# Altium footprint library TO227-SMPC.PcbLib: 1 footprints
Each footprint in its own frame and in the unit in brackets; x right, y up, seen from the top. Pads: shape width x height; smd on the part's side, far side on the other; paste and mask are expansions set on the pad; w line width, h text height; cw(c..) or ccw(c..) is an arc to the next point about the centre after c.
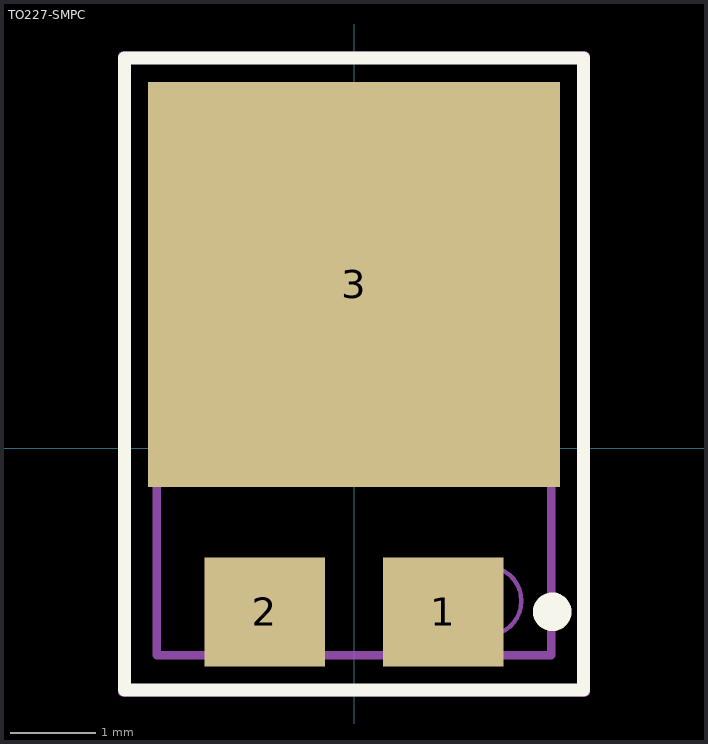
[diagram p0: the footprint, top view; thin cyan lines are the x and y axes]

## TO227-SMPC [mm] "Pitch2.08mm Body 4.6X6.1mm High 1mm"
height 1
pads (3):
  rect 1.4x1.27 smd: 1(1.04,-1.907) 2(-1.04,-1.907)
  rect 4.8x4.72 smd: 3(0,1.908)
Top Overlay:
  circle w0.25: c2.31,-1.907 r0.1
  lines w0.152: -2.676,-2.818 -2.676,4.544 2.676,4.544 2.676,-2.818 -2.676,-2.818
Mechanical 13:
  circle w0.05: c1.548,-1.78 r0.402
  lines w0.1: -2.3,-2.415 2.3,-2.415 2.3,4.189 -2.3,4.189 -2.3,-2.415
Mechanical 15:
  lines w0.1: -2.702,-2.844 -2.702,4.57 2.702,4.57 2.702,-2.844 -2.702,-2.844
3D body: height 1, standoff -0.01, extent -2.276,-2.363 2.324,4.137